# EAGLE library part SN74LXCH8T245 (library ds_ic_logic)
8-bit Translating Transceiver with Configurable Level Shifting
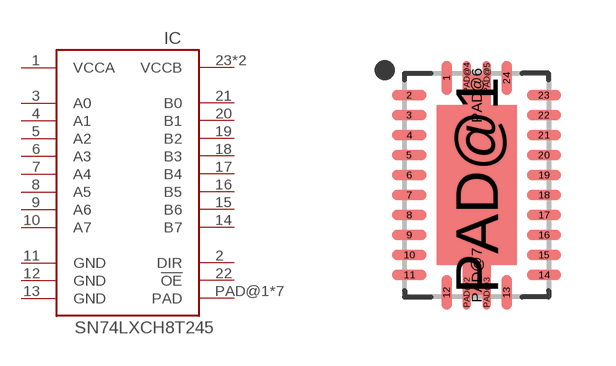
[diagram p0: symbol with the pads of QFN50P550X350X100-29T400X200N; footprint QFN50P550X350X100-29T400X200N]

Designator prefix IC

## SN74LXCH8T245  [QFN50P550X350X100-29T400X200N]
1  VCCA  sup
2  DIR  in
3  A0
4  A1
5  A2
6  A3
7  A4
8  A5
9  A6
10  A7
11  GND  sup
12  GND  sup
13  GND  sup
14  B7
15  B6
16  B5
17  B4
18  B3
19  B2
20  B1
21  B0
22  !OE  in
23  VCCB  sup
24  VCCB  sup
PAD@1  PAD  sup
PAD@2  PAD  sup
PAD@3  PAD  sup
PAD@4  PAD  sup
PAD@5  PAD  sup
PAD@6  PAD  sup
PAD@7  PAD  sup

## Footprint QFN50P550X350X100-29T400X200N (pad centres in mm)
28-QFN, 0.50 mm pitch, 5.50 X 3.50 X 1.00 mm body, 4.00 X 2.00 mm thermal pad 28-pin QFN package with 0.50 mm pitch with body size 5.50 X 3.50 X 1.00 mm and thermal pad size 4.00 X 2.00 mm
smd 0.264 x 0.86: 1 -0.75,2.685; 12 -0.75,-2.685; 13 0.75,-2.685; 24 0.75,2.685
smd 0.86 x 0.264: 2 -1.685,2.25; 3 -1.685,1.75; 4 -1.685,1.25; 5 -1.685,0.75; 6 -1.685,0.25; 7 -1.685,-0.25; 8 -1.685,-0.75; 9 -1.685,-1.25; 10 -1.685,-1.75; 11 -1.685,-2.25; 14 1.685,-2.25; 15 1.685,-1.75; 16 1.685,-1.25; 17 1.685,-0.75; 18 1.685,-0.25; 19 1.685,0.25; 20 1.685,0.75; 21 1.685,1.25; 22 1.685,1.75; 23 1.685,2.25
smd 2 x 4: PAD@1 0,0
smd 0.2 x 0.86: PAD@2 -0.25,-2.685; PAD@3 0.25,-2.685; PAD@4 -0.25,2.685; PAD@5 0.25,2.685
smd 0.7 x 1: PAD@6 0,2.25; PAD@7 0,-2.25